# EAGLE library part STM32H7_LQFP64_T1 (library stm32h7)
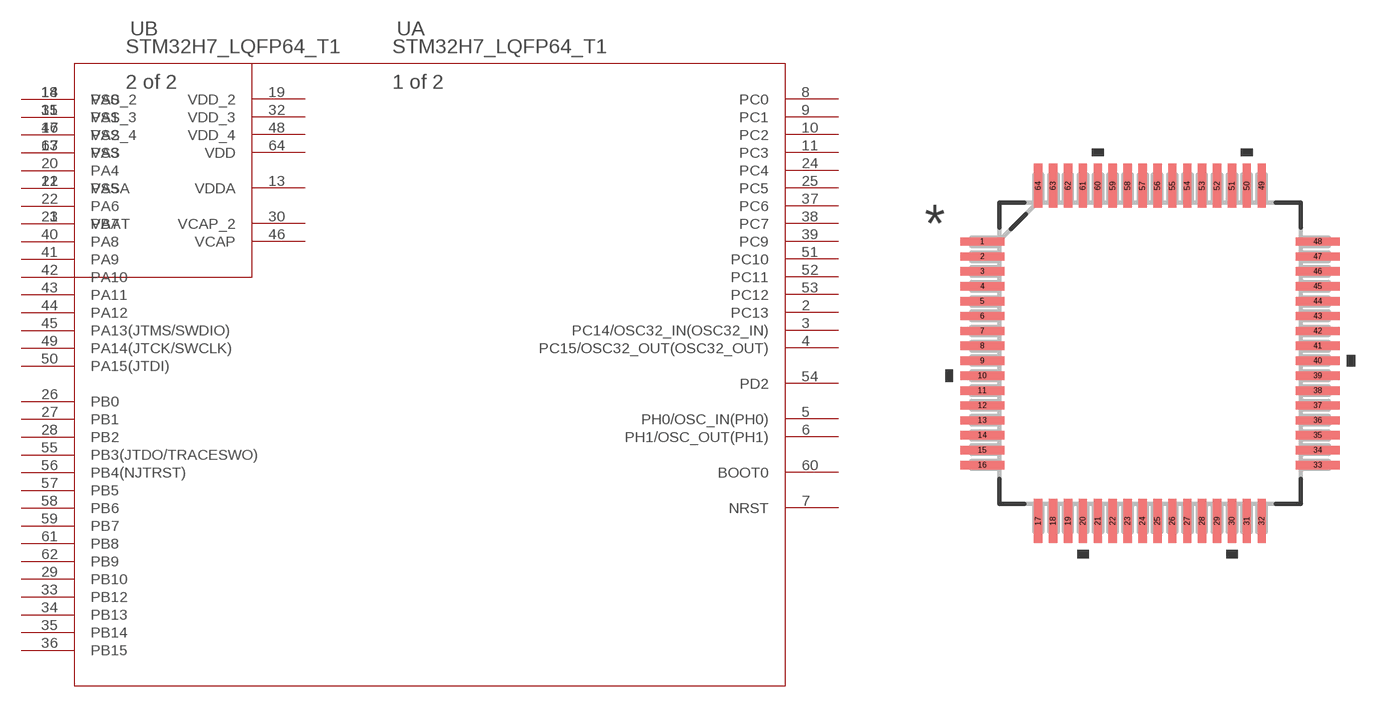
[diagram p0: symbol with the pads of LQFP64; footprint LQFP64]

Designator prefix U; gates A=STM32H7_LQFP64_T1 B=STM32H7_LQFP64_T1_A

## STM32H7_LQFP64_T1 (BUILT_BY: EMA_Jessica; COPYRIGHT: Copyright C 2018 Accelerated Designs. All rights reserved; MANUFACTURER_PART_NUMBER: stm32h7_lqfp64_t1; VENDOR: STMicroelectronics)  [LQFP64]
1  B:VBAT  pwr
2  A:PC13
3  A:PC14/OSC32_IN(OSC32_IN)
4  A:PC15/OSC32_OUT(OSC32_OUT)
5  A:PH0/OSC_IN(PH0)
6  A:PH1/OSC_OUT(PH1)
7  A:NRST
8  A:PC0
9  A:PC1
10  A:PC2
11  A:PC3
12  B:VSSA  pwr
13  B:VDDA  pwr
14  A:PA0
15  A:PA1
16  A:PA2
17  A:PA3
18  B:VSS_2  pwr
19  B:VDD_2  pwr
20  A:PA4
21  A:PA5
22  A:PA6
23  A:PA7
24  A:PC4
25  A:PC5
26  A:PB0
27  A:PB1
28  A:PB2
29  A:PB10
30  B:VCAP_2  pwr
31  B:VSS_3  pwr
32  B:VDD_3  pwr
33  A:PB12
34  A:PB13
35  A:PB14
36  A:PB15
37  A:PC6
38  A:PC7
39  A:PC9
40  A:PA8
41  A:PA9
42  A:PA10
43  A:PA11
44  A:PA12
45  A:PA13(JTMS/SWDIO)
46  B:VCAP  pwr
47  B:VSS_4  pwr
48  B:VDD_4  pwr
49  A:PA14(JTCK/SWCLK)
50  A:PA15(JTDI)
51  A:PC10
52  A:PC11
53  A:PC12
54  A:PD2
55  A:PB3(JTDO/TRACESWO)
56  A:PB4(NJTRST)
57  A:PB5
58  A:PB6
59  A:PB7
60  A:BOOT0  in
61  A:PB8
62  A:PB9
63  B:VSS  pwr
64  B:VDD  pwr

## Footprint LQFP64 (pad centres in mm)
smd 1.473 x 0.279: 1 -5.626,3.75; 2 -5.626,3.25; 3 -5.626,2.75; 4 -5.626,2.25; 5 -5.626,1.75; 6 -5.626,1.25; 7 -5.626,0.75; 8 -5.626,0.25; 9 -5.626,-0.25; 10 -5.626,-0.75; 11 -5.626,-1.25; 12 -5.626,-1.75; 13 -5.626,-2.25; 14 -5.626,-2.75; 15 -5.626,-3.25; 16 -5.626,-3.75; 33 5.626,-3.75; 34 5.626,-3.25; 35 5.626,-2.75; 36 5.626,-2.25; 37 5.626,-1.75; 38 5.626,-1.25; 39 5.626,-0.75; 40 5.626,-0.25; 41 5.626,0.25; 42 5.626,0.75; 43 5.626,1.25; 44 5.626,1.75; 45 5.626,2.25; 46 5.626,2.75; 47 5.626,3.25; 48 5.626,3.75
smd 0.279 x 1.473: 17 -3.75,-5.626; 18 -3.25,-5.626; 19 -2.75,-5.626; 20 -2.25,-5.626; 21 -1.75,-5.626; 22 -1.25,-5.626; 23 -0.75,-5.626; 24 -0.25,-5.626; 25 0.25,-5.626; 26 0.75,-5.626; 27 1.25,-5.626; 28 1.75,-5.626; 29 2.25,-5.626; 30 2.75,-5.626; 31 3.25,-5.626; 32 3.75,-5.626; 49 3.75,5.626; 50 3.25,5.626; 51 2.75,5.626; 52 2.25,5.626; 53 1.75,5.626; 54 1.25,5.626; 55 0.75,5.626; 56 0.25,5.626; 57 -0.25,5.626; 58 -0.75,5.626; 59 -1.25,5.626; 60 -1.75,5.626; 61 -2.25,5.626; 62 -2.75,5.626; 63 -3.25,5.626; 64 -3.75,5.626